# Altium footprint library S6B-EH.PcbLib: 1 footprints
Each footprint in its own frame and in the unit in brackets; x right, y up, seen from the top. Pads: shape width x height; smd on the part's side, far side on the other; paste and mask are expansions set on the pad; w line width, h text height; cw(c..) or ccw(c..) is an arc to the next point about the centre after c.
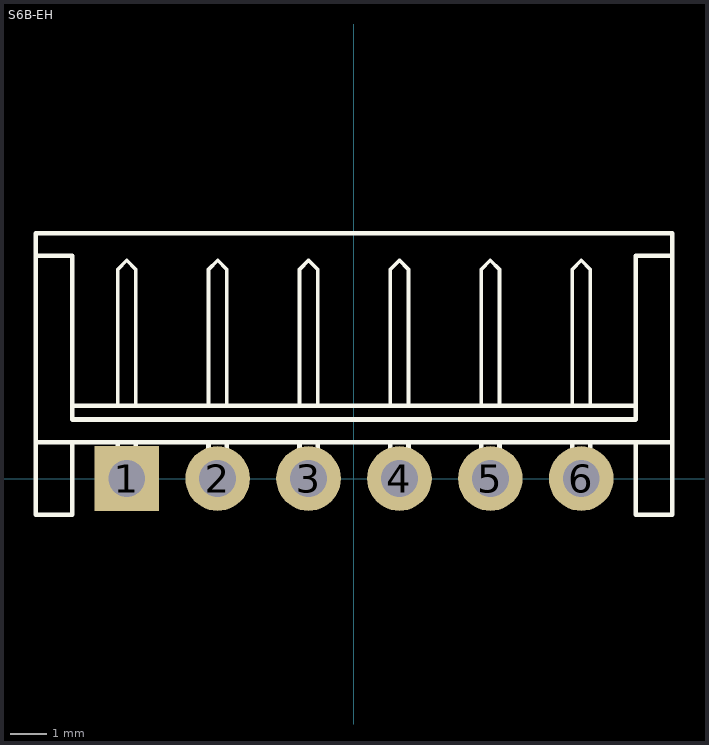
[diagram p0: the footprint, top view; thin cyan lines are the x and y axes]

## S6B-EH [mil] "EH Connector 2.5mm pitch, side entry"
height 165.35
pads (6):
  rect 70x70 hole 40: 1(-246.06,0)
  round 70 hole 40: 2(-147.64,0) 3(-49.21,0) 4(49.21,0) 5(147.64,0) 6(246.06,0)
TopOverlay:
  lines w4: -255.91,78.74 -255.91,226.38 -246.06,236.22 -236.22,226.38 -236.22,78.74 ; -157.48,78.74 -157.48,226.38 -147.64,236.22 -137.79,226.38 -137.79,78.74 ; -59.05,78.74 -59.05,226.38 -49.21,236.22 -39.37,226.38 -39.37,78.74 ; 39.37,78.74 39.37,226.38 49.21,236.22 59.06,226.38 59.06,78.74 ; 137.8,78.74 137.8,226.38 147.64,236.22 157.48,226.38 157.48,78.74 ; 236.22,78.74 236.22,226.38 246.06,236.22 255.91,226.38 255.91,78.74
  lines w5: -344.49,241.14 -305.12,241.14 -305.12,63.98 305.12,63.98 305.12,241.14 344.49,241.14 ; -305.12,78.74 305.12,78.74 ; -255.91,39.37 -255.91,-19.68 -236.22,-19.68 -236.22,39.37 ; -157.48,39.37 -157.48,-19.68 -137.79,-19.68 -137.79,39.37 ; -59.05,39.37 -59.05,-19.68 -39.37,-19.68 -39.37,39.37 ; 39.37,39.37 39.37,-19.68 59.06,-19.68 59.06,39.37 ; 137.8,39.37 137.8,-19.68 157.48,-19.68 157.48,39.37 ; 236.22,39.37 236.22,-19.68 255.91,-19.68 255.91,39.37 ; -344.49,39.37 -305.12,39.37 ; -344.49,39.37 -344.49,-39.37 -305.12,-39.37 -305.12,39.37 ; -344.49,39.37 -344.49,265.75 344.49,265.75 344.49,39.37 ; -305.12,39.37 108.27,39.37 305.12,39.37 ; 305.12,39.37 344.49,39.37 ; 305.12,39.37 305.12,-39.37 344.49,-39.37 344.49,39.37
3D body: height 165.35, standoff 0, extent -344.47,39.39 344.47,241.12
3D body: height 165.35, standoff 0, extent -344.47,-39.35 -305.14,39.35
3D body: height 165.35, standoff 0, extent 305.14,-39.35 344.47,39.35